# EAGLE library part 431151015826 (library 428427520910_Eagle_WS-ROTU_rev19b)
5x5 mm SMD with ground terminal WS-TASV <http://katalog.we-online.de/media/images/v2/Family_WS-TASV_Normal_SMD_4311x10xx8x6.jpg> Details see: http://katalog.we-online.de/em/datasheet/4311x10158x6.pdf 2015 (C) Wurth Elektronik
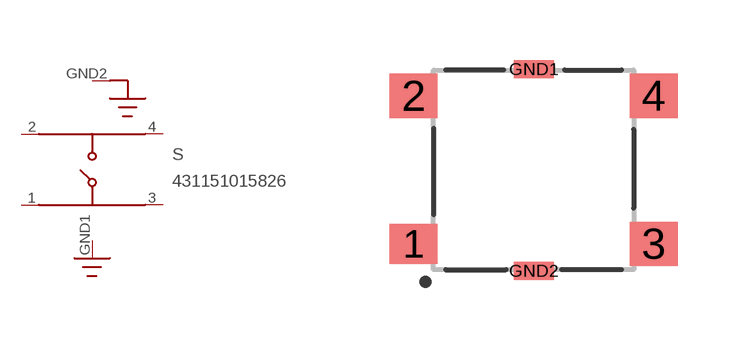
[diagram p54: symbol with the pads of 431181015816; footprint 431181015816]

Designator prefix S

## 431151015826  [431181015816]
1  1  pas
2  2  pas
3  3  pas
4  4  pas
GND1  6  pas
GND2  5  pas

## Footprint 431181015816 (pad centres in mm)
WS-TSS-5x5 mm SMD Tact Switch with ground terminal, 4 pins
smd 1.2 x 1: 1 -3,-1.85
smd 1.2 x 1.1: 2 -3,1.85; 3 3,-1.85; 4 3,1.85
smd 1 x 0.45: GND1 0,2.525; GND2 0,-2.525